# Altium schematic symbol library Trans_Mini-Circuits_TC1-1-13M+_eec.SchLib: 1 symbol
Pins are listed as number, name and electrical type; pins without a type are passive.

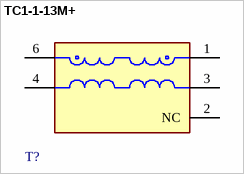
[diagram p0: symbol TC1-1-13M+]

## TC1-1-13M+
designator T?  (value not drawn)
pins: 1 SECONDARY DOT, 2 NC, 3 SECONDARY, 4 PRIMARY, 6 PRIMARY DOT